# EAGLE library part DIODES_INC_BY_ELEMENT14_BATCH_1_DMMT5401 (library GPIO Split Protector with Console)
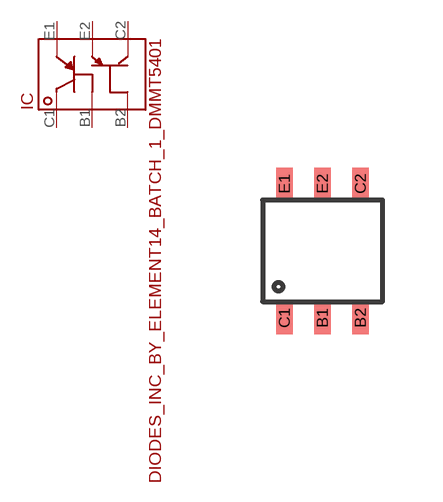
[diagram p0: symbol with the pads of DIODES_INC_BY_ELEMENT14_BATCH_1_DMMT5401; footprint DIODES_INC_BY_ELEMENT14_BATCH_1_DMMT5401]

Designator prefix IC

## DIODES_INC_BY_ELEMENT14_BATCH_1_DMMT5401DMMT (VALUE: DMMT5401)  [DIODES_INC_BY_ELEMENT14_BATCH_1_DMMT5401]
B1  B1
B2  B2
C1  C1
C2  C2
E1  E1
E2  E2

## Footprint DIODES_INC_BY_ELEMENT14_BATCH_1_DMMT5401 (pad centres in mm)
smd 0.406 x 0.813: B1 0,-1.676; B2 0.95,-1.676; C1 -0.95,-1.676; C2 0.95,1.676; E1 -0.95,1.676; E2 0,1.676